# Altium footprint library PCB - CONNECTOR - HIROSE - HIROSE DF13A-2P-1.25H.PCBLIB: 1 footprints
Each footprint in its own frame and in the unit in brackets; x right, y up, seen from the top. Pads: shape width x height; smd on the part's side, far side on the other; paste and mask are expansions set on the pad; w line width, h text height; cw(c..) or ccw(c..) is an arc to the next point about the centre after c.
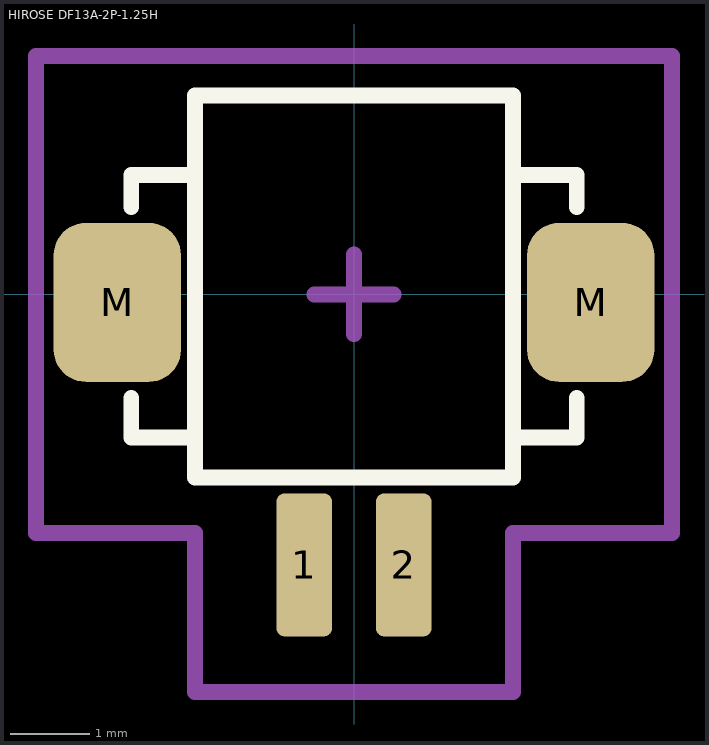
[diagram p0: the footprint, top view; thin cyan lines are the x and y axes]

## HIROSE DF13A-2P-1.25H [mm] "DF13 Series 1.25mm pitch miniature crimping connector single row"
height 3.6
pads (4):
  rrect30% 0.7x1.8 smd: 1(-0.625,-3.4) 2(0.625,-3.4)
  rrect50% 1.6x2 smd: M(-2.975,-0.1) M(2.975,-0.1)
Top Overlay:
  lines w0.2: -2.8,-1.3 -2.8,-1.8 -2.4,-1.8 -2,-1.8 ; -2.8,1.1 -2.8,1.5 -2,1.5 ; 2,-1.9 2,-1.8 2.4,-1.8 2.8,-1.8 2.8,-1.3 ; 2,1.5 2.8,1.5 2.8,1.1 ; -2,-2.3 -2,-1.3 -2,2.5 0,2.5 2,2.5 2,-1.3 2,-2.3 1,-2.3 0,-2.3 -1,-2.3 -2,-2.3
Mechanical 15:
  lines w0.2: -0.5,0 0.5,0 ; 0,-0.5 0,0.5 ; -4,-3 -2,-3 -2,-5 0,-5 2,-5 2,-3 4,-3 4,2.5 4,3 0,3 -4,3 -4,2.5 -4,-3
3D body "DF13-2P-1.25H_X_8A_S_H_X_97_S__.STEP": height 3.59, standoff -0.01, extent -3.575,-3.9 3.575,2.6